# Altium footprint library Package_SO.PcbLib: 393 footprints (part 25 of 25)
Each footprint in its own frame and in the unit in brackets; x right, y up, seen from the top. Pads: shape width x height; smd on the part's side, far side on the other; paste and mask are expansions set on the pad; w line width, h text height; cw(c..) or ccw(c..) is an arc to the next point about the centre after c.
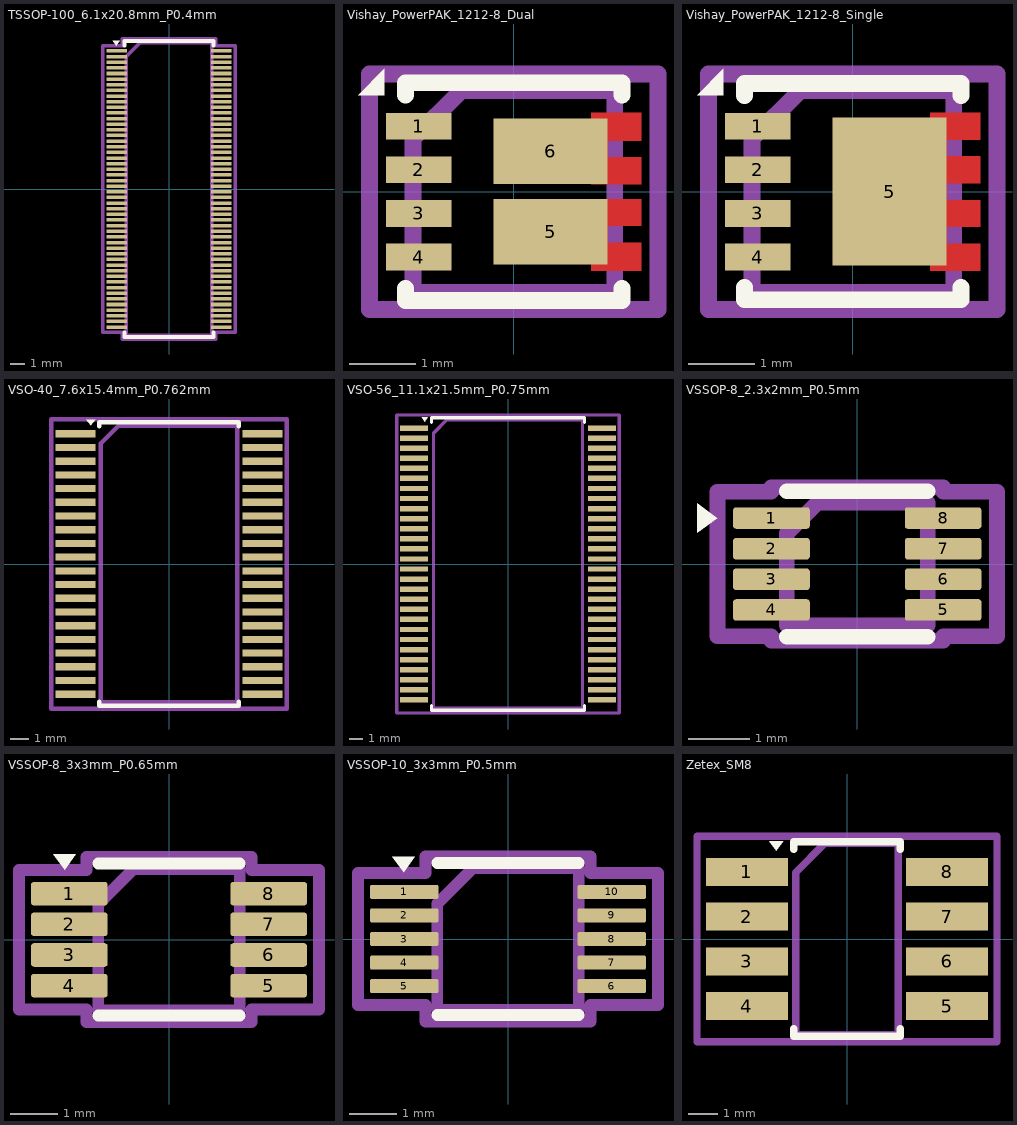
[diagram p24: the footprints below, top view; thin cyan lines are the x and y axes]

## TSSOP-100_6.1x20.8mm_P0.4mm [mm]
pads (100):
  rrect25% 1.475x0.25 smd: 1(-3.712,9.8) 2(-3.712,9.4) 3(-3.712,9) 4(-3.712,8.6) 5(-3.712,8.2) 6(-3.712,7.8) 7(-3.712,7.4) 8(-3.712,7) 9(-3.712,6.6) 10(-3.712,6.2) 11(-3.712,5.8) 12(-3.712,5.4) 13(-3.712,5) 14(-3.712,4.6) 15(-3.712,4.2) 16(-3.712,3.8) 17(-3.712,3.4) 18(-3.712,3) 19(-3.712,2.6) 20(-3.712,2.2) 21(-3.712,1.8) 22(-3.712,1.4) 23(-3.712,1) 24(-3.712,0.6) 25(-3.712,0.2) 26(-3.712,-0.2) 27(-3.712,-0.6) 28(-3.712,-1) 29(-3.712,-1.4) 30(-3.712,-1.8) 31(-3.712,-2.2) 32(-3.712,-2.6) 33(-3.712,-3) 34(-3.712,-3.4) 35(-3.712,-3.8) 36(-3.712,-4.2) 37(-3.712,-4.6) 38(-3.712,-5) 39(-3.712,-5.4) 40(-3.712,-5.8) 41(-3.712,-6.2) 42(-3.712,-6.6) 43(-3.712,-7) 44(-3.712,-7.4) 45(-3.712,-7.8) 46(-3.712,-8.2) 47(-3.712,-8.6) 48(-3.712,-9) 49(-3.712,-9.4) 50(-3.712,-9.8) 51(3.712,-9.8) 52(3.712,-9.4) 53(3.712,-9) 54(3.712,-8.6) 55(3.712,-8.2) 56(3.712,-7.8) 57(3.712,-7.4) 58(3.712,-7) 59(3.712,-6.6) 60(3.712,-6.2) 61(3.712,-5.8) 62(3.712,-5.4) 63(3.712,-5) 64(3.712,-4.6) 65(3.712,-4.2) 66(3.712,-3.8) 67(3.712,-3.4) 68(3.712,-3) 69(3.712,-2.6) 70(3.712,-2.2) 71(3.712,-1.8) 72(3.712,-1.4) 73(3.712,-1) 74(3.712,-0.6) 75(3.712,-0.2) 76(3.712,0.2) 77(3.712,0.6) 78(3.712,1) 79(3.712,1.4) 80(3.712,1.8) 81(3.712,2.2) 82(3.712,2.6) 83(3.712,3) 84(3.712,3.4) 85(3.712,3.8) 86(3.712,4.2) 87(3.712,4.6) 88(3.712,5) 89(3.712,5.4) 90(3.712,5.8) 91(3.712,6.2) 92(3.712,6.6) 93(3.712,7) 94(3.712,7.4) 95(3.712,7.8) 96(3.712,8.2) 97(3.712,8.6) 98(3.712,9) 99(3.712,9.4) 100(3.712,9.8)
F.SilkS:
  region: -3.75,10.185 -3.99,10.515 -3.51,10.515
  lines w0.254: -3.16,-10.185 -3.16,-10.51 0,-10.51 3.16,-10.51 3.16,-10.185 ; -3.16,10.185 -3.16,10.51 0,10.51 3.16,10.51 3.16,10.185
Top Assembly:
  lines w0.254: -3.05,-10.4 3.05,-10.4 3.05,10.4 -2.05,10.4 -3.05,9.4 -3.05,-10.4
  text "'.Designator'" at -4.047,-0.84 h1
Top Courtyard:
  lines w0.254: -4.7,-10.18 -3.3,-10.18 -3.3,-10.65 3.3,-10.65 3.3,-10.18 4.7,-10.18 4.7,10.18 3.3,10.18 3.3,10.65 -3.3,10.65 -3.3,10.18 -4.7,10.18 -4.7,-10.18
Top Designator:
  text ".Designator" at -7.618,-0.508 h1.52

## Vishay_PowerPAK_1212-8_Dual [mm]
pads (6):
  rect 0.99x0.405 smd: 1(-1.435,0.99) 2(-1.435,0.33) 3(-1.435,-0.33) 4(-1.435,-0.99)
  rect 1.725x0.99 smd: 5(0.557,-0.607) 6(0.557,0.607)
F.Cu:
  region: 1.93,0.773 1.42,0.773 1.42,0.517 1.93,0.517 1.93,0.112 1.17,0.112 1.17,1.195 1.93,1.195
  region: 1.93,-0.517 1.42,-0.517 1.42,-0.773 1.93,-0.773 1.93,-1.195 1.17,-1.195 1.17,-0.112 1.93,-0.112
F.SilkS:
  region: -1.955,1.46 -2.355,1.46 -1.955,1.86
  lines w0.254: -1.635,-1.46 -1.635,-1.645 1.635,-1.645 1.635,-1.46 ; -1.635,1.46 -1.635,1.645 1.635,1.645 1.635,1.46
F.Paste:
  region: 1.93,0.773 1.42,0.773 1.42,0.517 1.93,0.517 1.93,0.112 1.17,0.112 1.17,1.195 1.93,1.195
  region: 1.93,-0.517 1.42,-0.517 1.42,-0.773 1.93,-0.773 1.93,-1.195 1.17,-1.195 1.17,-0.112 1.93,-0.112
F.Mask:
  region: 1.93,0.773 1.42,0.773 1.42,0.517 1.93,0.517 1.93,0.112 1.17,0.112 1.17,1.195 1.93,1.195
  region: 1.93,-0.517 1.42,-0.517 1.42,-0.773 1.93,-0.773 1.93,-1.195 1.17,-1.195 1.17,-0.112 1.93,-0.112
Top Assembly:
  lines w0.254: -1.525,-1.525 1.525,-1.525 1.525,1.525 -0.8,1.525 -1.525,0.8 -1.525,-1.525
  text "'.Designator'" at -2.833,-0.588 h0.7
Top Courtyard:
  lines w0.254: -2.18,-1.78 2.18,-1.78 2.18,1.78 -2.18,1.78 -2.18,-1.78
Top Designator:
  text ".Designator" at -7.723,-0.508 h1.52

## Vishay_PowerPAK_1212-8_Single [mm]
pads (5):
  rect 0.99x0.405 smd: 1(-1.435,0.99) 2(-1.435,0.33) 3(-1.435,-0.33) 4(-1.435,-0.99)
  rect 1.725x2.235 smd: 5(0.557,0)
F.Cu:
  region: 1.93,0.787 1.42,0.787 1.42,0.533 1.93,0.533 1.93,0.128 1.42,0.128 1.42,-0.128 1.93,-0.128 1.93,-0.533 1.42,-0.533 1.42,-0.787 1.93,-0.787 1.93,-1.195 1.17,-1.195 1.17,1.195 1.93,1.195
F.SilkS:
  region: -1.955,1.46 -2.355,1.46 -1.955,1.86
  lines w0.254: -1.635,-1.45 -1.635,-1.635 1.635,-1.635 1.635,-1.45 ; -1.635,1.45 -1.635,1.635 1.635,1.635 1.635,1.45
F.Paste:
  region: 1.93,0.787 1.42,0.787 1.42,0.533 1.93,0.533 1.93,0.128 1.42,0.128 1.42,-0.128 1.93,-0.128 1.93,-0.533 1.42,-0.533 1.42,-0.787 1.93,-0.787 1.93,-1.195 1.17,-1.195 1.17,1.195 1.93,1.195
F.Mask:
  region: 1.93,0.787 1.42,0.787 1.42,0.533 1.93,0.533 1.93,0.128 1.42,0.128 1.42,-0.128 1.93,-0.128 1.93,-0.533 1.42,-0.533 1.42,-0.787 1.93,-0.787 1.93,-1.195 1.17,-1.195 1.17,1.195 1.93,1.195
Top Assembly:
  lines w0.254: -1.525,-1.525 1.525,-1.525 1.525,1.525 -0.8,1.525 -1.525,0.8 -1.525,-1.525
  text "'.Designator'" at -2.833,-0.588 h0.7
Top Courtyard:
  lines w0.254: -2.18,-1.78 2.18,-1.78 2.18,1.78 -2.18,1.78 -2.18,-1.78
Top Designator:
  text ".Designator" at -7.723,-0.508 h1.52

## VSO-40_7.6x15.4mm_P0.762mm [mm]
pads (40):
  rect 2.2x0.4 smd: 1(-5.2,7.239) 2(-5.2,6.477) 3(-5.2,5.715) 4(-5.2,4.953) 5(-5.2,4.191) 6(-5.2,3.429) 7(-5.2,2.667) 8(-5.2,1.905) 9(-5.2,1.143) 10(-5.2,0.381) 11(-5.2,-0.381) 12(-5.2,-1.143) 13(-5.2,-1.905) 14(-5.2,-2.667) 15(-5.2,-3.429) 16(-5.2,-4.191) 17(-5.2,-4.953) 18(-5.2,-5.715) 19(-5.2,-6.477) 20(-5.2,-7.239) 21(5.2,-7.239) 22(5.2,-6.477) 23(5.2,-5.715) 24(5.2,-4.953) 25(5.2,-4.191) 26(5.2,-3.429) 27(5.2,-2.667) 28(5.2,-1.905) 29(5.2,-1.143) 30(5.2,-0.381) 31(5.2,0.381) 32(5.2,1.143) 33(5.2,1.905) 34(5.2,2.667) 35(5.2,3.429) 36(5.2,4.191) 37(5.2,4.953) 38(5.2,5.715) 39(5.2,6.477) 40(5.2,7.239)
F.SilkS:
  region: -4.35,7.7 -4.59,8.03 -4.11,8.03
  lines w0.254: -3.875,-7.664 -3.875,-7.875 3.875,-7.875 3.875,-7.664 ; -3.875,7.664 -3.875,7.875 3.875,7.875 3.875,7.664
Top Assembly:
  lines w0.254: -3.8,-7.7 3.8,-7.7 3.8,7.7 -2.8,7.7 -3.8,6.7 -3.8,-7.7
  text "'.Designator'" at -3.267,-0.702 h0.8
Top Courtyard:
  lines w0.254: -6.55,-8.05 6.55,-8.05 6.55,8.05 -6.55,8.05 -6.55,-8.05
Top Designator:
  text ".Designator" at -7.618,-0.508 h1.52

## VSO-56_11.1x21.5mm_P0.75mm [mm]
pads (56):
  rect 2.1x0.4 smd: 1(-7,10.125) 2(-7,9.375) 3(-7,8.625) 4(-7,7.875) 5(-7,7.125) 6(-7,6.375) 7(-7,5.625) 8(-7,4.875) 9(-7,4.125) 10(-7,3.375) 11(-7,2.625) 12(-7,1.875) 13(-7,1.125) 14(-7,0.375) 15(-7,-0.375) 16(-7,-1.125) 17(-7,-1.875) 18(-7,-2.625) 19(-7,-3.375) 20(-7,-4.125) 21(-7,-4.875) 22(-7,-5.625) 23(-7,-6.375) 24(-7,-7.125) 25(-7,-7.875) 26(-7,-8.625) 27(-7,-9.375) 28(-7,-10.125) 29(7,-10.125) 30(7,-9.375) 31(7,-8.625) 32(7,-7.875) 33(7,-7.125) 34(7,-6.375) 35(7,-5.625) 36(7,-4.875) 37(7,-4.125) 38(7,-3.375) 39(7,-2.625) 40(7,-1.875) 41(7,-1.125) 42(7,-0.375) 43(7,0.375) 44(7,1.125) 45(7,1.875) 46(7,2.625) 47(7,3.375) 48(7,4.125) 49(7,4.875) 50(7,5.625) 51(7,6.375) 52(7,7.125) 53(7,7.875) 54(7,8.625) 55(7,9.375) 56(7,10.125)
F.SilkS:
  region: -6.2,10.6 -6.44,10.93 -5.96,10.93
  lines w0.254: -5.7,-10.55 -5.7,-10.9 5.7,-10.9 5.7,-10.55 ; -5.7,10.55 -5.7,10.9 5.7,10.9 5.7,10.55
Top Assembly:
  lines w0.254: -5.55,-10.75 5.55,-10.75 5.55,10.75 -4.55,10.75 -5.55,9.75 -5.55,-10.75
  text "'.Designator'" at -3.267,-0.702 h0.8
Top Courtyard:
  lines w0.254: -8.3,-11.1 8.3,-11.1 8.3,11.1 -8.3,11.1 -8.3,-11.1
Top Designator:
  text ".Designator" at -7.618,-0.508 h1.52

## VSSOP-8_2.3x2mm_P0.5mm [mm]
pads (8):
  rrect25% 1.25x0.35 smd: 1(-1.4,0.75) 2(-1.4,0.25) 3(-1.4,-0.25) 4(-1.4,-0.75) 5(1.4,-0.75) 6(1.4,-0.25) 7(1.4,0.25) 8(1.4,0.75)
F.SilkS:
  region: -2.285,0.75 -2.615,0.51 -2.615,0.99
  lines w0.254: -1.15,-1.185 0,-1.185 1.15,-1.185 ; -1.15,1.185 0,1.185 1.15,1.185
Top Assembly:
  lines w0.254: -1.15,-1 1.15,-1 1.15,1 -0.65,1 -1.15,0.5 -1.15,-1
  text "'.Designator'" at -2.311,-0.483 h0.57
Top Courtyard:
  lines w0.254: -2.28,-1.18 -1.4,-1.18 -1.4,-1.25 1.4,-1.25 1.4,-1.18 2.28,-1.18 2.28,1.18 1.4,1.18 1.4,1.25 -1.4,1.25 -1.4,1.18 -2.28,1.18 -2.28,-1.18
Top Designator:
  text ".Designator" at -7.722,-0.508 h1.52

## VSSOP-8_3x3mm_P0.65mm [mm]
pads (8):
  rrect25% 1.625x0.5 smd: 1(-2.113,0.975) 2(-2.113,0.325) 3(-2.113,-0.325) 4(-2.113,-0.975) 5(2.113,-0.975) 6(2.113,-0.325) 7(2.113,0.325) 8(2.113,0.975)
F.SilkS:
  region: -2.213,1.485 -2.452,1.815 -1.973,1.815
  lines w0.254: -1.5,-1.61 0,-1.61 1.5,-1.61 ; -1.5,1.61 0,1.61 1.5,1.61
Top Assembly:
  lines w0.254: -1.5,-1.5 1.5,-1.5 1.5,1.5 -0.75,1.5 -1.5,0.75 -1.5,-1.5
  text "'.Designator'" at -3.033,-0.628 h0.75
Top Courtyard:
  lines w0.254: -3.18,-1.48 -1.75,-1.48 -1.75,-1.75 1.75,-1.75 1.75,-1.48 3.18,-1.48 3.18,1.48 1.75,1.48 1.75,1.75 -1.75,1.75 -1.75,1.48 -3.18,1.48 -3.18,-1.48
Top Designator:
  text ".Designator" at -7.618,-0.508 h1.52

## VSSOP-10_3x3mm_P0.5mm [mm]
pads (10):
  rrect25% 1.45x0.3 smd: 1(-2.2,1) 2(-2.2,0.5) 3(-2.2,0) 4(-2.2,-0.5) 5(-2.2,-1) 6(2.2,-1) 7(2.2,-0.5) 8(2.2,0) 9(2.2,0.5) 10(2.2,1)
F.SilkS:
  region: -2.213,1.41 -2.452,1.74 -1.973,1.74
  lines w0.254: -1.5,-1.61 0,-1.61 1.5,-1.61 ; -1.5,1.61 0,1.61 1.5,1.61
Top Assembly:
  lines w0.254: -1.5,-1.5 1.5,-1.5 1.5,1.5 -0.75,1.5 -1.5,0.75 -1.5,-1.5
  text "'.Designator'" at -3.033,-0.628 h0.75
Top Courtyard:
  lines w0.254: -3.18,-1.4 -1.75,-1.4 -1.75,-1.75 1.75,-1.75 1.75,-1.4 3.18,-1.4 3.18,1.4 1.75,1.4 1.75,1.75 -1.75,1.75 -1.75,1.4 -3.18,1.4 -3.18,-1.4
Top Designator:
  text ".Designator" at -7.618,-0.508 h1.52

## Zetex_SM8 [mm]
pads (8):
  rect 2.8x0.95 smd: 1(-3.4,2.28) 2(-3.4,0.76) 3(-3.4,-0.76) 4(-3.4,-2.28) 5(3.4,-2.28) 6(3.4,-0.76) 7(3.4,0.76) 8(3.4,2.28)
F.SilkS:
  region: -2.4,3 -2.64,3.33 -2.16,3.33
  lines w0.254: -1.81,-3.05 -1.81,-3.31 1.81,-3.31 1.81,-3.05 ; -1.81,3.05 -1.81,3.31 1.81,3.31 1.81,3.05
Top Assembly:
  lines w0.254: -1.75,-3.25 1.75,-3.25 1.75,3.25 -0.75,3.25 -1.75,2.25 -1.75,-3.25
  text "'.Designator'" at 0.84,-4.047 h1
Top Courtyard:
  lines w0.254: -5.1,-3.5 5.1,-3.5 5.1,3.5 -5.1,3.5 -5.1,-3.5
Top Designator:
  text ".Designator" at -7.618,-0.658 h1.52